# Altium schematic symbol library SCH - DRIVER - LED - TI TPS92001_D_8.SchLib: 1 symbol
Pins are listed as number, name and electrical type; pins without a type are passive.

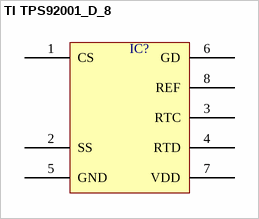
[diagram p0: symbol TI TPS92001_D_8]

## TI TPS92001_D_8
designator IC?  (value not drawn)
pins: 1 CS, 2 SS, 3 RTC, 4 RTD, 5 GND, 6 GD, 7 VDD, 8 REF